# EAGLE library part AD8353 (library analog-devices)
1 MHz to 2.7 GHz RF Gain Block Source: AD8353.pdf
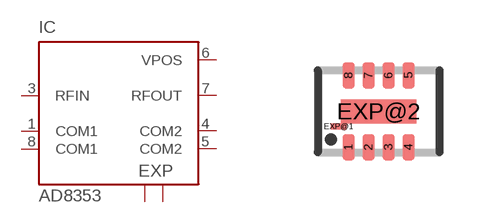
[diagram p52: symbol with the pads of LFCSP_VD08; footprint LFCSP_VD08]

Designator prefix IC

## AD8353  [LFCSP_VD08]
1  COM1  in
3  RFIN  in
4  COM2  in
5  COM2  in
6  VPOS  pwr
7  RFOUT  out
8  COM1  in
EXP@1  EXP  in
EXP@2  EXP  in

## Footprint LFCSP_VD08 (pad centres in mm)
8-Lead Lead Frame Chip Scale Package [LFCSP_VD] 2 mm × 3 mm Body, Very Thin, Dual Lead CP-8-1 Source: AD8353.pdf
smd 0.3 x 0.65: 1 -0.75,-0.9; 2 -0.25,-0.9; 3 0.25,-0.9; 4 0.75,-0.9; 5 0.75,0.9; 6 0.25,0.9; 7 -0.25,0.9; 8 -0.75,0.9
smd 0.4 x 0.15: EXP@1 -1,-0.375
smd 1.89 x 0.6: EXP@2 0,0